# EAGLE library part 615008185121 (library WR-MJ)
WR-MJ Cat 3 Modular Jacks – THT Characteristics Shieldingless and Shielded with EMI-Spring option Optional LEDs in various sequences Vertical and Horizontal orientation Stacked and assembled configurations Tray Packaging Properties PoE++ Compatible up to 100W (IEEE 802.3bt) UL and cULus-Certified UL94-V0 insulator material Ethernet Category 3 – Category 5 under conditions Applications Networks Internet of Things mart Buildings <https://www.we-online.com/components/media/o863419v209%20multi-WR-MJTH-615002138421.jpg> Details see: www.we-online.com/en/components/products/WR_MJ_MODULAR_JACKS_THT <www.we-online.com/catalog/WR_MJ_MODULAR_JACKS_THT/?utm_source=eagle_model&utm_medium=description_link&utm_campaign=eisos_eagle> Updated by Yingchun Shan 2020-01-06 2020(C) Würth Elektronik
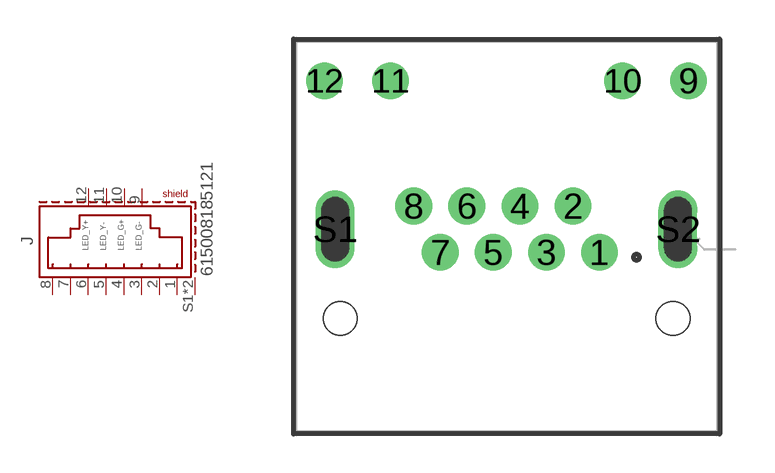
[diagram p35: symbol with the pads of 615008185121; footprint 615008185121]

Designator prefix J

## 615008185121 (APPLICATION-SYSTEM: CAT 3; DATASHEET-URL: https://www.we-online.com/redexpert/spec/615008185121?ae; EMI: Yes; LED: yellow-green; MOUNT: THT; PART-NUMBER: 615008185121; SIZE: Horizontal; TAB: Up; VALUE: 615008185121; XPXC: 8P8C)  [615008185121]
1  1  pas
2  2  pas
3  3  pas
4  4  pas
5  5  pas
6  6  pas
7  7  pas
8  8  pas
9  G-  pas
10  G+  pas
11  Y-  pas
12  Y+  pas
S1  SHIELD  pas
S2  SHIELD  pas

## Footprint 615008185121 (pad centres in mm)
WR-MJ Modular Jack Horizontal Shielded Low Profile w. LED 8P8C Tab Up
drill 0.9: 1 3.57,-0.61; 2 2.55,1.17; 3 1.53,-0.61; 4 0.51,1.17; 5 -0.51,-0.61; 6 -1.53,1.17; 7 -2.55,-0.61; 8 -3.57,1.17; 9 7,5.99; 10 4.46,5.99; 11 -4.46,5.99; 12 -7,5.99
drill 1 long: S1 -6.59,0.28; S2 6.59,0.28
hole 1.3 at 6.4,-3.15
hole 1.3 at -6.4,-3.15